# EAGLE library part TXS0108E (library 07-Retrocomputing)
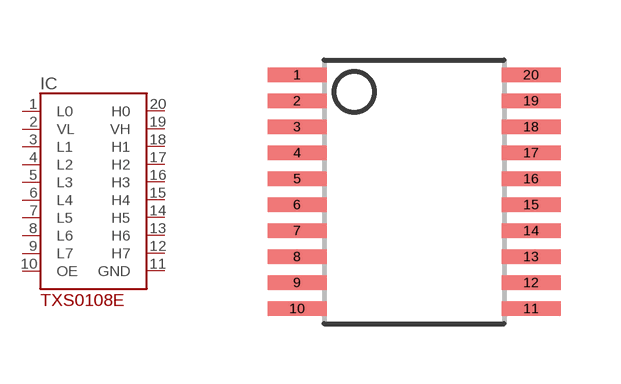
[diagram p32: symbol with the pads of TSSOP20; footprint TSSOP20]

Designator prefix IC

## TXS0108E  [TSSOP20]
1  L0
2  VL
3  L1
4  L2
5  L3
6  L4
7  L5
8  L6
9  L7
10  OE
11  GND
12  H7
13  H6
14  H5
15  H4
16  H3
17  H2
18  H1
19  VH
20  H0

## Footprint TSSOP20 (pad centres in mm)
smd 1.5 x 0.35: 1 -2.925,2.925; 2 -2.925,2.275; 3 -2.925,1.625; 4 -2.925,0.975; 5 -2.925,0.325; 6 -2.925,-0.325; 7 -2.925,-0.975; 8 -2.925,-1.625; 9 -2.925,-2.275; 10 -2.925,-2.925; 11 2.925,-2.925; 12 2.925,-2.275; 13 2.925,-1.625; 14 2.925,-0.975; 15 2.925,-0.325; 16 2.925,0.325; 17 2.925,0.975; 18 2.925,1.625; 19 2.925,2.275; 20 2.925,2.925